# EAGLE library part CS4271_SW (library cirrus)
Stereo Audio CODEC (Software Mode) 24-Bit, 192 kHz
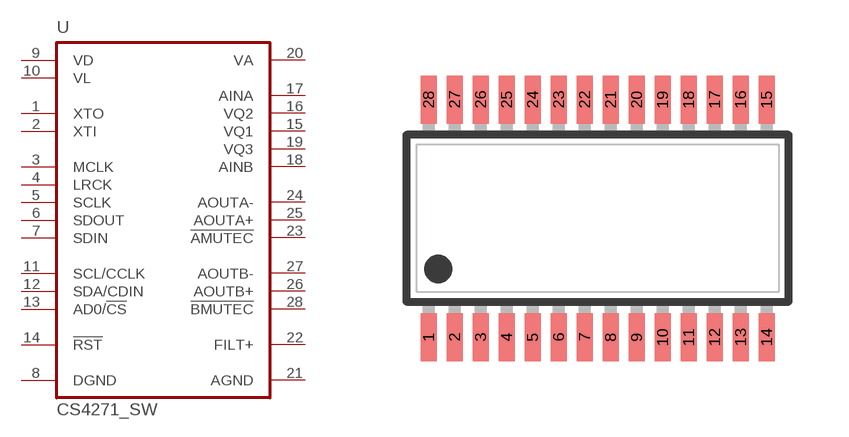
[diagram p13: symbol with the pads of TSSOP28L; footprint TSSOP28L]

Designator prefix U

## CS4271_SW  [TSSOP28L]
1  XTO
2  XTI
3  MCLK
4  LRCK
5  SCLK
6  SDOUT
7  SDIN
8  DGND  pwr
9  VD  pwr
10  VL  pwr
11  SCL/CCLK
12  SDA/CDIN
13  AD0/!CS!
14  !RST!  in
15  VQ1
16  VQ2
17  AINA
18  AINB
19  VQ3
20  VA  pwr
21  AGND  pwr
22  FILT+  out
23  !AMUTEC!  out
24  AOUTA-  out
25  AOUTA+  out
26  AOUTB+  out
27  AOUTB-  out
28  !BMUTEC!  out

## Footprint TSSOP28L (pad centres in mm)
Small Shrink Outline Package JEDEC MO-153
smd 0.4 x 1.2: 1 -3.575,-2.97; 2 -2.925,-2.97; 3 -2.275,-2.97; 4 -1.625,-2.97; 5 -0.975,-2.97; 6 -0.325,-2.97; 7 0.325,-2.97; 8 0.975,-2.97; 9 1.625,-2.97; 10 2.275,-2.97; 11 2.925,-2.97; 12 3.575,-2.97; 13 4.225,-2.97; 14 4.875,-2.97; 15 4.875,2.97; 16 4.225,2.97; 17 3.575,2.97; 18 2.925,2.97; 19 2.275,2.97; 20 1.625,2.97; 21 0.975,2.97; 22 0.325,2.97; 23 -0.325,2.97; 24 -0.975,2.97; 25 -1.625,2.97; 26 -2.275,2.97; 27 -2.925,2.97; 28 -3.575,2.97